# Altium footprint library LED_SST-10-UV.PcbLib: 1 footprints
Each footprint in its own frame and in the unit in brackets; x right, y up, seen from the top. Pads: shape width x height; smd on the part's side, far side on the other; paste and mask are expansions set on the pad; w line width, h text height; cw(c..) or ccw(c..) is an arc to the next point about the centre after c.
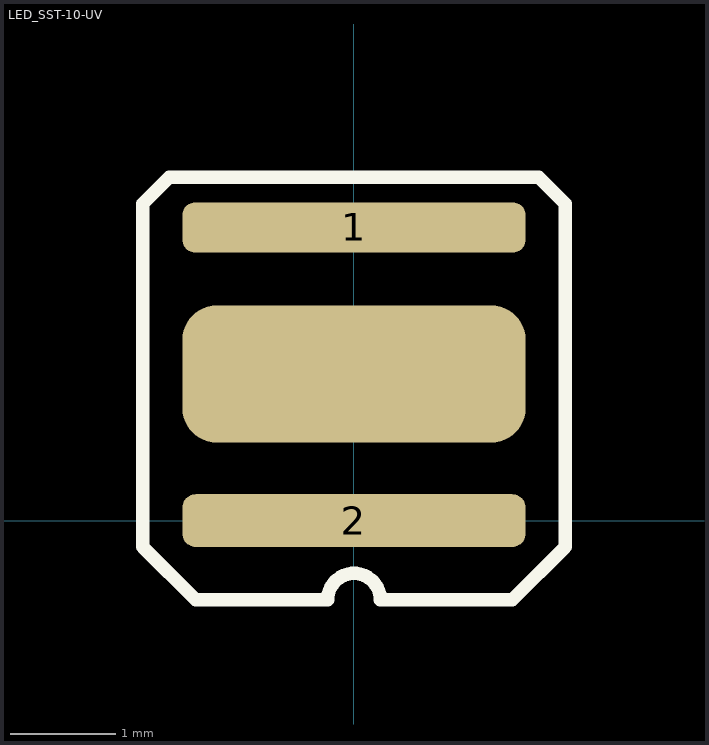
[diagram p0: the footprint, top view; thin cyan lines are the x and y axes]

## LED_SST-10-UV [mm]
height 2
pads (3):
  rrect50% 3.25x0.475 smd: 1(0,2.775)
  rrect50% 3.25x0.5 smd: 2(0,0)
  rrect50% 3.25x1.3 smd: ""(0,1.388)
Top Overlay:
  lines w0.127: -2,-0.25 -1.5,-0.75 -0.25,-0.75 cw(c0,-0.75) 0.25,-0.75 1.5,-0.75 2,-0.25 2,3 1.75,3.25 -1.75,3.25 -2,3 -2,-0.25